# EAGLE library part ATTINYX02 (library delorean)
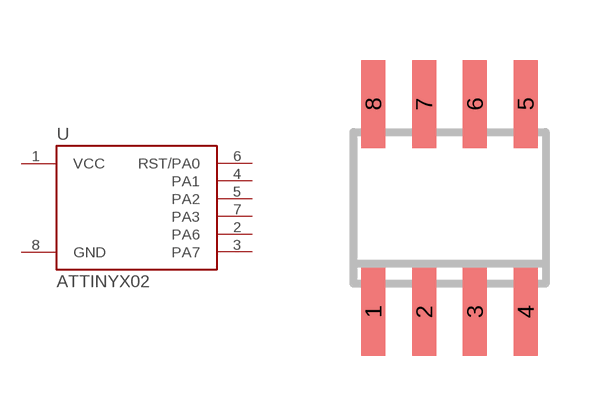
[diagram p0: symbol with the pads of SOIC08_JEDEC_150MIL; footprint SOIC08_JEDEC_150MIL]

Designator prefix -

## ATTINYX02  [SOIC08_JEDEC_150MIL]
1  VCC  pwr
2  PA6
3  PA7
4  PA1
5  PA2
6  RST/PA0
7  PA3
8  GND  pwr

## Footprint SOIC08_JEDEC_150MIL (pad centres in mm)
Small Outline Narrow Plastic Gull Wing 150-mil body
smd 0.6 x 2.2: 1 -1.905,-2.6; 2 -0.635,-2.6; 3 0.635,-2.6; 4 1.905,-2.6; 5 1.905,2.6; 6 0.635,2.6; 7 -0.635,2.6; 8 -1.905,2.6